# Altium schematic symbol library Crys_NDK_NX3225GA-24.000M-STD-CRG-2_eec.SchLib: 1 symbol
Pins are listed as number, name and electrical type; pins without a type are passive.

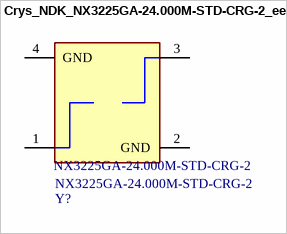
[diagram p0: symbol Crys_NDK_NX3225GA-24.000M-STD-CRG-2_eec]

## Crys_NDK_NX3225GA-24.000M-STD-CRG-2_eec
designator Y?  Part Number: NX3225GA-24.000M-STD-CRG-2
Manufacturer: NDK; Mfg Package Ident: NX3225GA; helpURL: https://upverter.com/upn/revision/3f097d6dbfb82180/; ComponentLink2Description: Datasheet; Temperature: -40°C to +85°C; Package: NX3225GA; Supplier 2: Mouser; Supplier 1: Digi-Key; ComponentLink1URL: https://upverter.com/upn/revision/3f097d6dbfb82180/; ComponentLink1Description: Upverter; ComponentLink2URL: http://www.ndk.com/images/products/catalog/c_NX3225GA-STD-CRG-2_e.pdf; RoHS: TRUE; Temperature Range Low: -40°C; Lead Free: yes; Temperature Range High: +85°C
footprint NDK_NX3225GA_0
pins: 1, 2 GND, 3, 4 GND